# EAGLE library part NANOPI_NEO_PLUS_2 (library FriendlyArm)
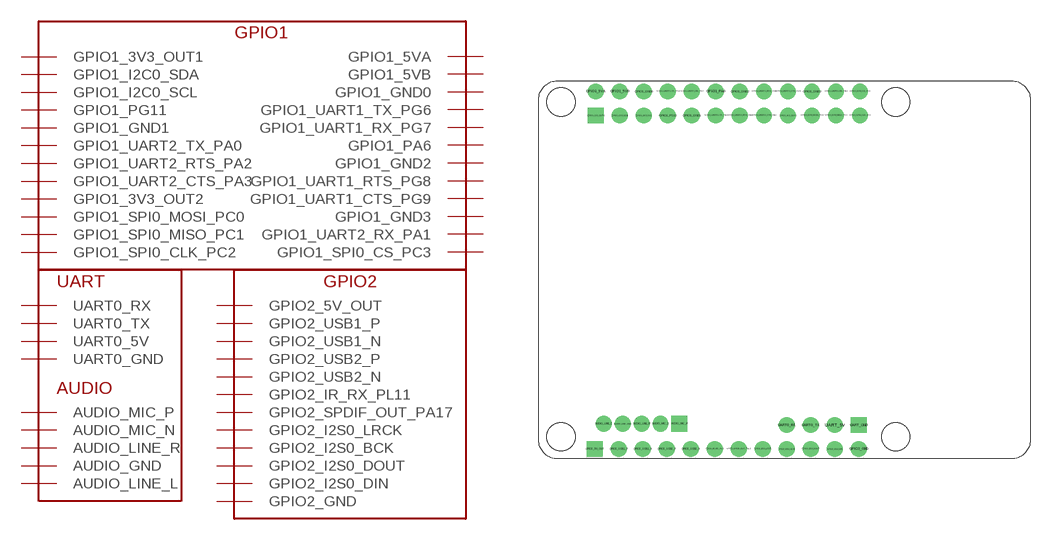
[diagram p0: symbol with the pads of NANOPI-NEO-PLUS-2; footprint NANOPI-NEO-PLUS-2]

Designator prefix -; gates G$1=NANOPI_NEO_PLUS_2_AUDIO_UART0 G$2=NANOPI_NEO_PLUS_2_GPIO2 G$3=NANOPI_NEO_PLUS_2_GPIO1

## NANOPI_NEO_PLUS_2  [NANOPI-NEO-PLUS-2]
AUDIO_LINE_GND  G$1:AUDIO_GND
AUDIO_LINE_L  G$1:AUDIO_LINE_L
AUDIO_LINE_R  G$1:AUDIO_LINE_R
AUDIO_MIC_N  G$1:AUDIO_MIC_N
AUDIO_MIC_P  G$1:AUDIO_MIC_P
GPIO1_3V3_OUT0  G$3:GPIO1_3V3_OUT1
GPIO1_3V3_OUT1  G$3:GPIO1_3V3_OUT2
GPIO1_5VA  G$3:GPIO1_5VA
GPIO1_5VB  G$3:GPIO1_5VB
GPIO1_GND0  G$3:GPIO1_GND0
GPIO1_GND1  G$3:GPIO1_GND1
GPIO1_GND2  G$3:GPIO1_GND2
GPIO1_GND3  G$3:GPIO1_GND3
GPIO1_I2C0_SCL  G$3:GPIO1_I2C0_SCL
GPIO1_I2C0_SDA  G$3:GPIO1_I2C0_SDA
GPIO1_PA6  G$3:GPIO1_PA6
GPIO1_PG11  G$3:GPIO1_PG11
GPIO1_SPI0_CLK_PC2  G$3:GPIO1_SPI0_CLK_PC2
GPIO1_SPI0_CS_PC3  G$3:GPIO1_SPI0_CS_PC3
GPIO1_SPI0_MISO_PC1  G$3:GPIO1_SPI0_MISO_PC1
GPIO1_SPI0_MOSI_PC0  G$3:GPIO1_SPI0_MOSI_PC0
GPIO1_UART1_CTS_PG9  G$3:GPIO1_UART1_CTS_PG9
GPIO1_UART1_RTS_PG8  G$3:GPIO1_UART1_RTS_PG8
GPIO1_UART1_RX_PG7  G$3:GPIO1_UART1_RX_PG7
GPIO1_UART1_TX_PG6  G$3:GPIO1_UART1_TX_PG6
GPIO1_UART2_CTS_PA3  G$3:GPIO1_UART2_CTS_PA3
GPIO1_UART2_RTS_PA2  G$3:GPIO1_UART2_RTS_PA2
GPIO1_UART2_RX_PA1  G$3:GPIO1_UART2_RX_PA1
GPIO1_UART2_TX_PA0  G$3:GPIO1_UART2_TX_PA0
GPIO2_5V_OUT  G$2:GPIO2_5V_OUT
GPIO2_GND  G$2:GPIO2_GND
GPIO2_I2S0_BCK  G$2:GPIO2_I2S0_BCK
GPIO2_I2S0_DIN  G$2:GPIO2_I2S0_DIN
GPIO2_I2S0_DOUT  G$2:GPIO2_I2S0_DOUT
GPIO2_I2S0_LRCK  G$2:GPIO2_I2S0_LRCK
GPIO2_IR_RX_PL11  G$2:GPIO2_IR_RX_PL11
GPIO2_SPDIF_OUT_PA17  G$2:GPIO2_SPDIF_OUT_PA17
GPIO2_USB1_N  G$2:GPIO2_USB1_N
GPIO2_USB1_P  G$2:GPIO2_USB1_P
GPIO2_USB2_N  G$2:GPIO2_USB2_N
GPIO2_USB2_P  G$2:GPIO2_USB2_P
UART0_RX  G$1:UART0_RX
UART0_TX  G$1:UART0_TX
UART_5V  G$1:UART0_5V
UART_GND  G$1:UART0_GND

## Footprint NANOPI-NEO-PLUS-2 (pad centres in mm)
drill 1.016 pad 1.676: AUDIO_LINE_GND 8.985,3.81; AUDIO_LINE_L 6.985,3.81; AUDIO_LINE_R 10.985,3.81; AUDIO_MIC_N 12.985,3.81; GPIO1_3V3_OUT1 26.467,36.424; GPIO1_5VA 6.147,38.964; GPIO1_5VB 8.687,38.964; GPIO1_GND0 11.227,38.964; GPIO1_GND1 16.307,36.424; GPIO1_GND2 21.387,38.964; GPIO1_GND3 29.007,38.964; GPIO1_I2C0_SCL 11.227,36.424; GPIO1_I2C0_SDA 8.687,36.424; GPIO1_PA6 18.847,38.964; GPIO1_PG11 13.767,36.424; GPIO1_SPI0_CLK_PC2 34.087,36.424; GPIO1_SPI0_CS_PC3 34.087,38.964; GPIO1_SPI0_MISO_PC1 31.547,36.424; GPIO1_SPI0_MOSI_PC0 29.007,36.424; GPIO1_UART1_CTS_PG9 26.467,38.964; GPIO1_UART1_RTS_PG8 23.927,38.964; GPIO1_UART1_RX_PG7 16.307,38.964; GPIO1_UART1_TX_PG6 13.767,38.964; GPIO1_UART2_CTS_PA3 23.927,36.424; GPIO1_UART2_RTS_PA2 21.387,36.424; GPIO1_UART2_RX_PA1 31.547,38.964; GPIO1_UART2_TX_PA0 18.847,36.424; GPIO2_GND 33.96,1.143; GPIO2_I2S0_BCK 26.34,1.143; GPIO2_I2S0_DIN 31.42,1.143; GPIO2_I2S0_DOUT 28.88,1.143; GPIO2_I2S0_LRCK 23.8,1.143; GPIO2_IR_RX_PL11 18.72,1.143; GPIO2_SPDIF_OUT_PA17 21.26,1.143; GPIO2_USB1_N 11.1,1.143; GPIO2_USB1_P 8.56,1.143; GPIO2_USB2_N 16.18,1.143; GPIO2_USB2_P 13.64,1.143; UART0_RX 26.34,3.683; UART0_TX 28.88,3.683; UART_5V 31.42,3.683
drill 1.016 pad 1.676 square: AUDIO_MIC_P 14.985,3.81; GPIO1_3V3_OUT0 6.147,36.424; GPIO2_5V_OUT 6.02,1.143; UART_GND 33.96,3.683
hole 3 at 37.871,37.846
hole 3 at 2.471,37.846
hole 3 at 2.471,2.446
hole 3 at 37.871,2.446